# Altium schematic symbol library TP4056_SOP-8-EP_Battery_Management_IC.SchLib: 1 symbol
Pins are listed as number, name and electrical type; pins without a type are passive.

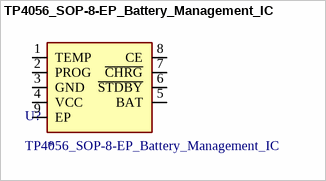
[diagram p0: symbol TP4056_SOP-8-EP_Battery_Management_IC]

## TP4056_SOP-8-EP_Battery_Management_IC
designator U?
LCSC: *
footprint TP4056_SOP-8-EP_Battery_Management_IC
pins: 1 TEMP, 2 PROG, 3 GND, 4 VCC, 5 BAT, 6 ~{STDBY}, 7 ~{CHRG}, 8 CE, 9 EP